# Altium footprint library Capacitors.PcbLib: 1 footprints
Each footprint in its own frame and in the unit in brackets; x right, y up, seen from the top. Pads: shape width x height; smd on the part's side, far side on the other; paste and mask are expansions set on the pad; w line width, h text height; cw(c..) or ccw(c..) is an arc to the next point about the centre after c.
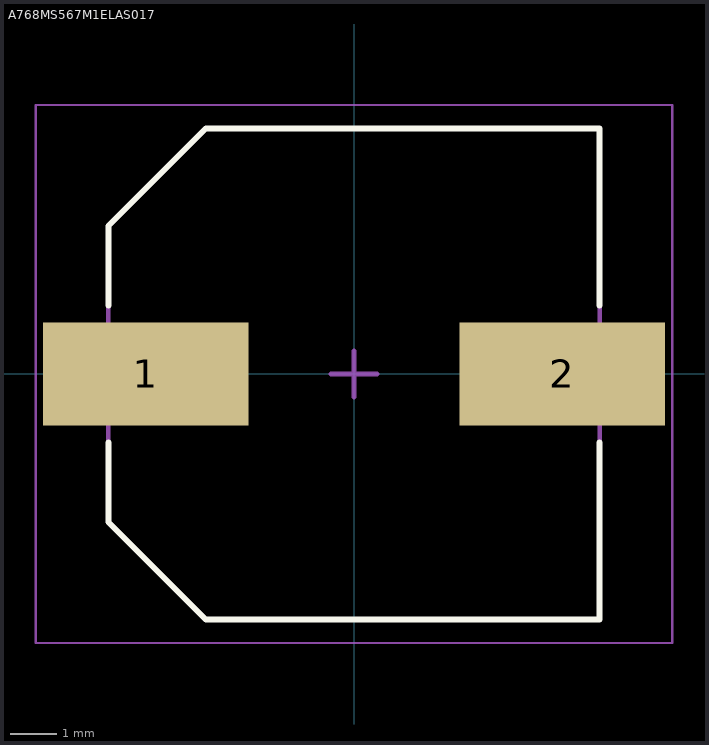
[diagram p0: the footprint, top view; thin cyan lines are the x and y axes]

## A768MS567M1ELAS017 [mm] "560 µF 25 V Aluminum - Polymer Capacitors Radial, Can - SMD 17mOhm 2000 Hrs @ 125°C"
height 12.7
pads (2):
  rect 4.4x2.2 smd mask+0.05: 1(-4.45,0) 2(4.45,0)
Top Overlay:
  lines w0.127: -5.25,-1.464 -5.25,-3.163 -3.163,-5.25 5.25,-5.25 5.25,-1.464 ; -5.25,1.464 -5.25,3.162 -3.163,5.25 5.25,5.25 5.25,1.464
Top Assembly:
  lines w0.1: -5.25,-3.163 -3.163,-5.25 5.25,-5.25 5.25,5.25 -3.163,5.25 -5.25,3.162 -5.25,-3.163
  text "'.Designator'" at -2.417,-0.226 h1
Top Courtyard:
  lines w0.05: -6.8,-5.75 -6.8,5.75 6.8,5.75 6.8,-5.75 -6.8,-5.75
  lines w0.1: -0.5,0 0.5,0 ; 0,-0.5 0,0.5
3D body "CAPAE110103X127N.step": height 12.7, standoff 0, extent -5.5,-5.25 5.5,5.25